# EAGLE library part L293D (library harrison)
L293D Quad Half-H Motor Driver
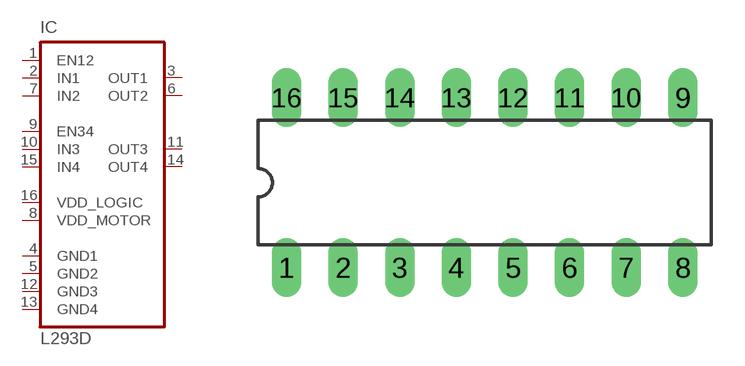
[diagram p8: symbol with the pads of DIL16_L293D; footprint DIL16_L293D]

Designator prefix IC

## L293D  [DIL16_L293D]
1  EN12  in
2  IN1  in
3  OUT1  out
4  GND1  pwr
5  GND2  pwr
6  OUT2  out
7  IN2  in
8  VDD_MOTOR  pwr
9  EN34  in
10  IN3  in
11  OUT3  out
12  GND3  pwr
13  GND4  pwr
14  OUT4  out
15  IN4  in
16  VDD_LOGIC  pwr

## Footprint DIL16_L293D (pad centres in mm)
drill 0.813 long: 1 -8.89,-3.81; 2 -6.35,-3.81; 3 -3.81,-3.81; 4 -1.27,-3.81; 5 1.27,-3.81; 6 3.81,-3.81; 7 6.35,-3.81; 8 8.89,-3.81; 9 8.89,3.81; 10 6.35,3.81; 11 3.81,3.81; 12 1.27,3.81; 13 -1.27,3.81; 14 -3.81,3.81; 15 -6.35,3.81; 16 -8.89,3.81